# EAGLE library part USB2513 (library AWJLEagleLib)
SMSC USB 2.0 hub controller
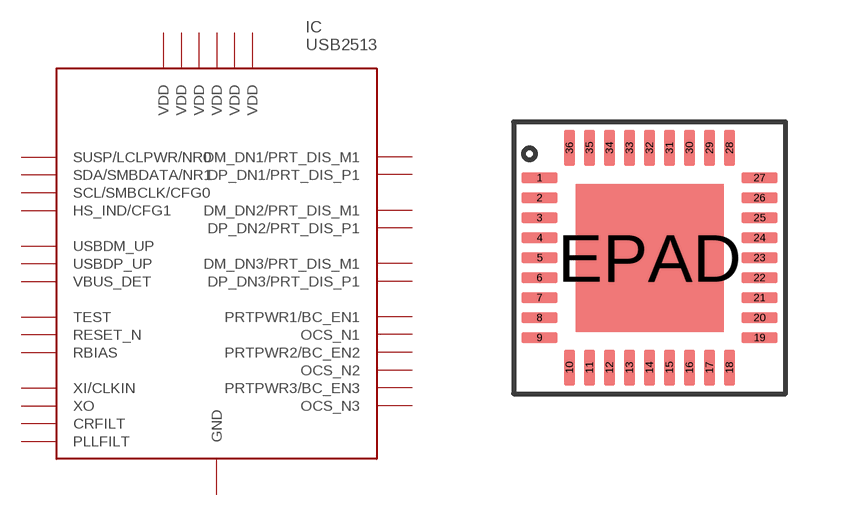
[diagram p11: symbol with the pads of QFN36; footprint QFN36]

Designator prefix IC

## USB2513  [QFN36]
1  DM_DN1/PRT_DIS_M1
2  DP_DN1/PRT_DIS_P1
3  DM_DN2/PRT_DIS_M1
4  DP_DN2/PRT_DIS_P1
5  VDD  pwr
6  DM_DN3/PRT_DIS_M1
7  DP_DN3/PRT_DIS_P1
10  VDD  pwr
11  TEST
12  PRTPWR1/BC_EN1
13  OCS_N1
14  CRFILT
15  VDD  pwr
16  PRTPWR2/BC_EN2
17  OCS_N2
18  PRTPWR3/BC_EN3
19  OCS_N3
22  SDA/SMBDATA/NR1
23  VDD  pwr
24  SCL/SMBCLK/CFG0
25  HS_IND/CFG1  out
26  RESET_N
27  VBUS_DET
28  SUSP/LCLPWR/NR0
29  VDD  pwr
30  USBDM_UP
31  USBDP_UP
32  XO  out
33  XI/CLKIN  in
34  PLLFILT
35  RBIAS
36  VDD  pwr
EPAD  GND  pwr

## Footprint QFN36 (pad centres in mm)
smd 0.9 x 0.28: 1 -2.75,2; 2 -2.75,1.5; 3 -2.75,1; 4 -2.75,0.5; 5 -2.75,0; 6 -2.75,-0.5; 7 -2.75,-1; 8 -2.75,-1.5; 9 -2.75,-2; 19 2.75,-2; 20 2.75,-1.5; 21 2.75,-1; 22 2.75,-0.5; 23 2.75,0; 24 2.75,0.5; 25 2.75,1; 26 2.75,1.5; 27 2.75,2
smd 0.28 x 0.9: 10 -2,-2.75; 11 -1.5,-2.75; 12 -1,-2.75; 13 -0.5,-2.75; 14 0,-2.75; 15 0.5,-2.75; 16 1,-2.75; 17 1.5,-2.75; 18 2,-2.75; 28 2,2.75; 29 1.5,2.75; 30 1,2.75; 31 0.5,2.75; 32 0,2.75; 33 -0.5,2.75; 34 -1,2.75; 35 -1.5,2.75; 36 -2,2.75
smd 3.7 x 3.7: EPAD 0,0